# Altium footprint library clone_PCB_libary.PcbLib: 26 footprints (part 1 of 2)
Each footprint in its own frame and in the unit in brackets; x right, y up, seen from the top. Pads: shape width x height; smd on the part's side, far side on the other; paste and mask are expansions set on the pad; w line width, h text height; cw(c..) or ccw(c..) is an arc to the next point about the centre after c.
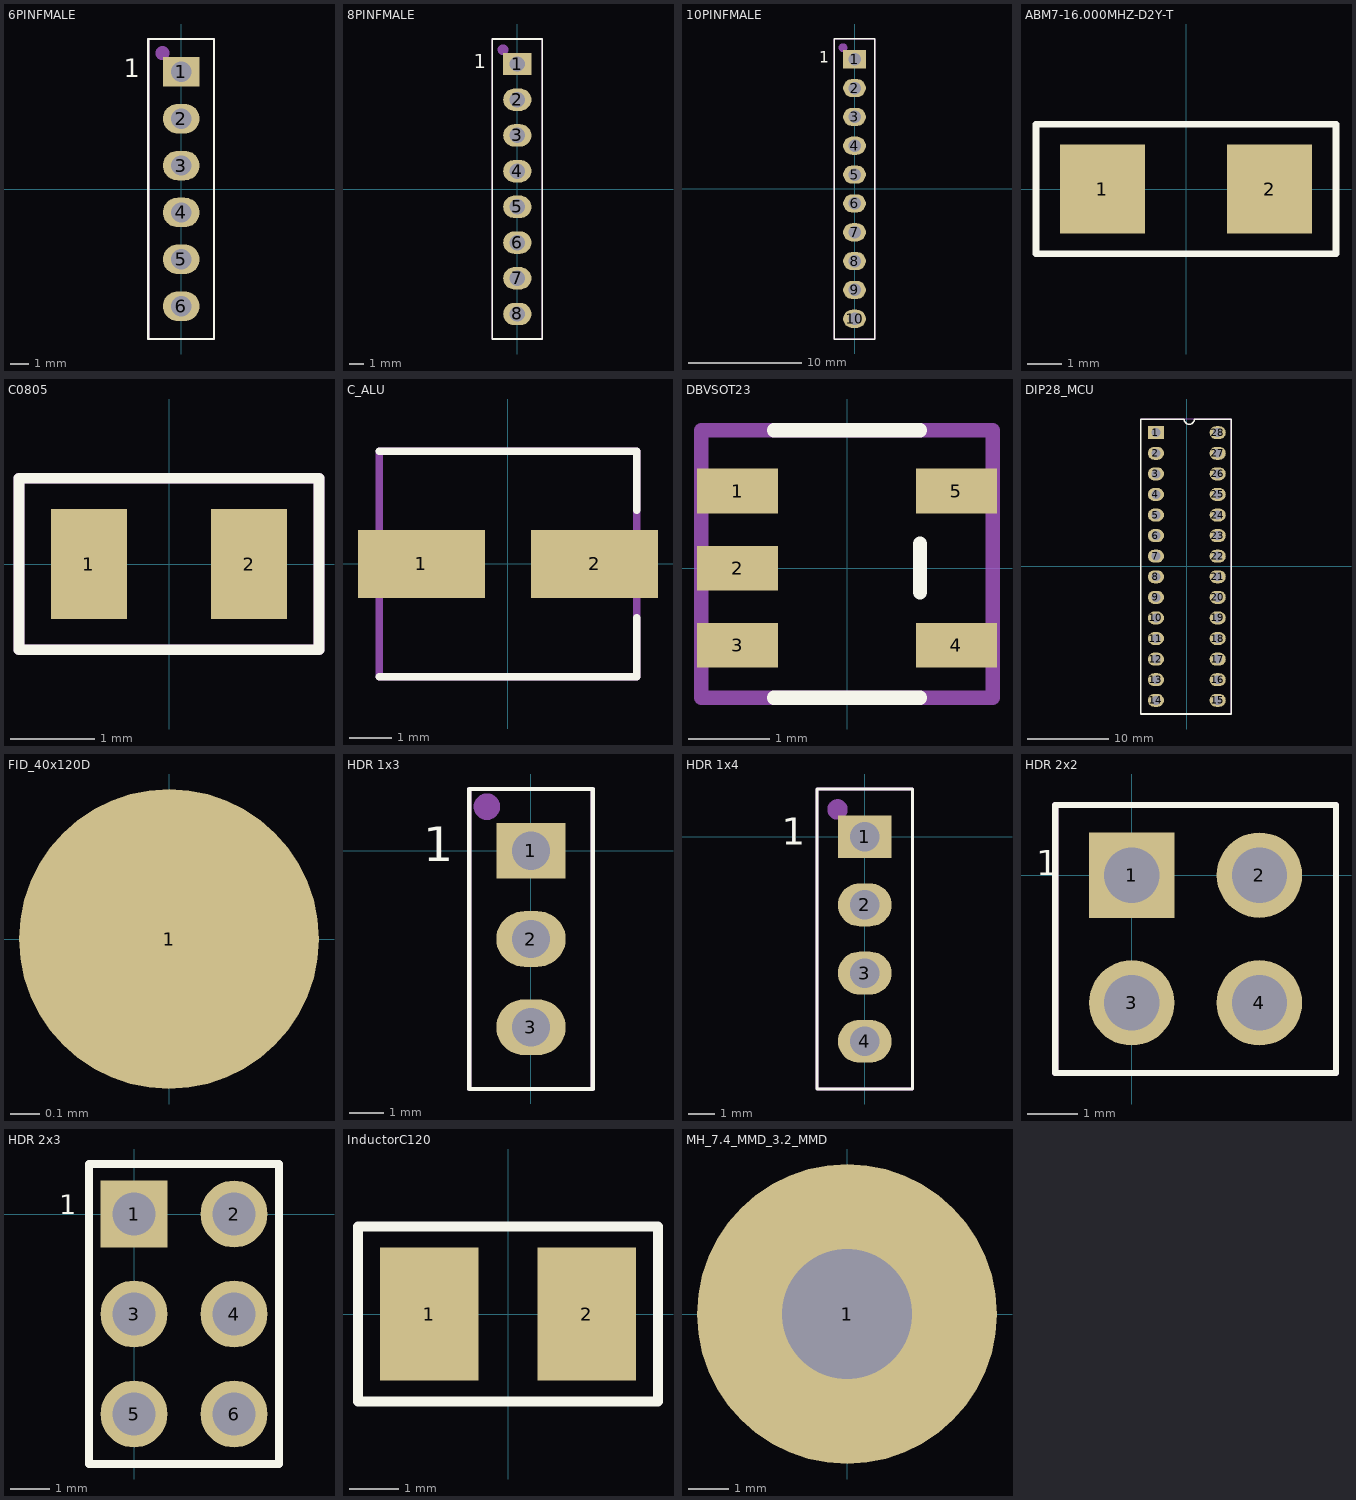
[diagram p0: the footprints below, top view; thin cyan lines are the x and y axes]

## 6PINFMALE [mm]
pads (6):
  rect 2x1.6 hole 1.1: 1(0,6.35)
  oval 2x1.6 hole 1.1: 2(0,3.81) 3(0,1.27) 4(0,-1.27) 5(0,-3.81) 6(0,-6.35)
Top Overlay:
  lines w0.127: -1.778,-8.128 1.778,-8.128 1.778,8.128 -1.778,8.128 -1.778,-8.128
  text "1" at -3.102,6.042 h1
Mechanical 2:
  circle w0.508: c-1.016,7.366 r0.127
  lines w0.127: -1.778,-8.128 1.778,-8.128 1.778,8.128 -1.778,8.128 -1.778,-8.128
  text ".Designator" at 0.483,-4.88 h1
3D body "m20-7820646.stp": height 8.8, standoff -2.7, extent -1.25,-7.82 1.25,7.82

## 8PINFMALE [mm]
pads (8):
  rect 2x1.6 hole 1.1: 1(0,8.89)
  oval 2x1.6 hole 1.1: 2(0,6.35) 3(0,3.81) 4(0,1.27) 5(0,-1.27) 6(0,-3.81) 7(0,-6.35) 8(0,-8.89)
Top Overlay:
  lines w0.127: -1.778,-10.668 -1.778,10.668 1.778,10.668 1.778,-10.668 -1.778,-10.668
  text "1" at -3.102,8.582 h1
Mechanical 2:
  circle w0.508: c-1.016,9.906 r0.127
  lines w0.127: -1.778,-10.668 -0.635,-10.668 1.143,-10.668 1.778,-10.668 1.778,10.668 -1.778,10.668 -1.778,-10.668
  text ".Designator" at 0.508,-7.874 h1.52
3D body "m20-7820842.stp": height 8.8, standoff -2.7, extent -1.25,-10.36 1.25,10.36

## 10PINFMALE [mm]
pads (10):
  rect 2x1.6 hole 1.1: 1(0,11.43)
  oval 2x1.6 hole 1.1: 2(0,8.89) 3(0,6.35) 4(0,3.81) 5(0,1.27) 6(0,-1.27) 7(0,-3.81) 8(0,-6.35) 9(0,-8.89) 10(0,-11.43)
Top Overlay:
  lines w0.127: -1.778,-13.208 1.778,-13.208 1.778,13.208 -1.778,13.208 -1.778,-13.208
  text "1" at -3.102,11.122 h1
Mechanical 2:
  circle w0.508: c-1.016,12.446 r0.127
  lines w0.127: -1.778,-13.208 -1.778,13.208 1.778,13.208 1.778,-13.208 -1.778,-13.208
  text ".Designator" at 0.762,-11.43 h1.52
3D body "M20-7821046_asm.stp": height 8.8, standoff -2.7, extent -1.25,-12.9 1.25,12.9

## 28_DIP_SOCKET [mm]
3D body "dil_socket.stp": height 4.07, standoff -3.3, extent -1.24,-34.26 8.86,1.24

## ABM7-16.000MHZ-D2Y-T [mm]
pads (2):
  rect 2.5x2.6 smd: 1(-2.45,0) 2(2.45,0)
Top Overlay:
  lines w0.2: -4.4,-1.9 4.4,-1.9 4.4,1.9 -4.4,1.9 -4.4,-1.9
Mechanical 2:
  lines w0.127: -4.4,-1.9 -4.4,1.9 4.4,1.9 4.4,-1.9 -4.4,-1.9
  text ".Designator" at -1.265,0.018 h0.25
3D body "XTAL_ABM7_ABR.step": height 1.4, standoff 0, extent -3.409,-2.291 3.409,2.291

## C0805 [mm]
pads (2):
  rect 0.9x1.3 smd: 1(-0.95,0) 2(0.95,0)
Top Overlay:
  lines w0.127: -1.778,-1.016 1.778,-1.016 1.778,1.016 -1.778,1.016 -1.778,-1.016
Mechanical 2:
  lines w0.127: -1.778,-1.016 -1.778,1.016 1.778,1.016 1.778,-1.016 -1.778,-1.016
  text ".Designator" at -1.22,-0.121 h0.25
3D body "CAP_2012_TDK.step": height 1.42, standoff -0.02, extent -1.067,-0.623 1.143,0.622

## C_ALU [mm]
pads (2):
  rect 3x1.6 smd: 1(-2.05,0) 2(2.05,0)
Top Overlay:
  lines w0.178: -3.048,-2.667 3.048,-2.667 3.048,-1.27 ; -3.048,2.667 3.048,2.667 3.048,1.778 3.048,1.524 3.048,1.27
Mechanical 2:
  circle w0.3: c-2.487,0.127 r0.1
  lines w0.178: -3.048,-2.667 -3.048,2.667 3.048,2.667 3.048,-2.667 -3.048,-2.667
  text ".Designator" at -1.297,0.013 h0.5
3D body "5 SIZE CODE C.stp": height 5.8, standoff 0, extent -3,-2.65 3,2.65

## DBVSOT23 [mm]
pads (5):
  rect 1x0.55 smd: 1(-1.35,0.95) 2(-1.35,0) 3(-1.35,-0.95) 4(1.35,-0.95) 5(1.35,0.95)
Top Overlay:
  lines w0.178: -0.9,-1.6 0.9,-1.6 ; -0.9,1.7 0.9,1.7 ; 0.9,-0.3 0.9,0.3
Mechanical 2:
  circle w0.254: c-1.372,0.94 r0.1
  lines w0.178: -1.8,-1.6 1.8,-1.6 1.8,1.7 -1.8,1.7 -1.8,-1.6
  text ".Designator" at -0.89,-0.112 h0.2
3D body "SN74AHC1G09DBVR.step": height 1.45, standoff 0, extent -1.4,-1.45 1.4,1.45

## DIP28_MCU [mm]
pads (28):
  rect 2x1.6 hole 1.1: 1(-3.81,16.51)
  oval 2x1.6 hole 1.1: 2(-3.81,13.97) 3(-3.81,11.43) 4(-3.81,8.89) 5(-3.81,6.35) 6(-3.81,3.81) 7(-3.81,1.27) 8(-3.81,-1.27) 9(-3.81,-3.81) 10(-3.81,-6.35) 11(-3.81,-8.89) 12(-3.81,-11.43) 13(-3.81,-13.97) 14(-3.81,-16.51) 15(3.81,-16.51) 16(3.81,-13.97) 17(3.81,-11.43) 18(3.81,-8.89) 19(3.81,-6.35) 20(3.81,-3.81) 21(3.81,-1.27) 22(3.81,1.27) 23(3.81,3.81) 24(3.81,6.35) 25(3.81,8.89) 26(3.81,11.43) 27(3.81,13.97) 28(3.81,16.51)
Top Overlay:
  lines w0.2: -5.7,-18.2 5.487,-18.2 5.487,18.144 5.487,18.18 0.935,18.18 cw(c0.3,18.18) -0.335,18.18 -5.7,18.18 -5.7,-18.2
Mechanical 2:
  circle w0.762: c-3.81,16.51 r0.127
  lines w0.076: -5.7,-18.1 -5.6,-18.2 ; 5.4,-18.2 5.5,-18.1
  lines w0.152: -5.7,-18.1 -5.7,18.2 5.5,18.2 5.5,-18.1 ; -5.6,-18.2 5.4,-18.2
  text ".Designator" at 0.508,-0.381 h1.52
3D body "DIP-28 N.step": height 7, standoff -0.35, extent -4.568,-17.6 4.568,17.6

## FID_40x120D [mil]
pads (1):
  round 40 smd paste-1574.8 mask+40: 1(0,0)

## HDR 1x3 [mm]
pads (3):
  rect 2x1.6 hole 1.1: 1(0,0)
  oval 2x1.6 hole 1.1: 2(0,-2.54) 3(0,-5.08)
Top Overlay:
  lines w0.127: -1.778,-6.858 -1.778,1.778 1.778,1.778 1.778,-6.858 -1.778,-6.858
  text "1" at -3.102,-0.308 h1
Mechanical 2:
  circle w0.508: c-1.27,1.27 r0.127
  lines w0.127: -1.778,-6.858 -1.778,1.778 1.778,1.778 1.778,-6.858 -1.778,-6.858
  text ".Designator" at 0.483,-5.896 h1
3D body "68000-103HLF.step": height 8.39, standoff -2.41, extent -1.205,-6.35 1.205,1.27

## HDR 1x4 [mm]
pads (4):
  rect 2x1.6 hole 1.1: 1(0,0)
  oval 2x1.6 hole 1.1: 2(0,-2.54) 3(0,-5.08) 4(0,-7.62)
Top Overlay:
  lines w0.127: -1.778,-9.398 -1.778,1.778 1.778,1.778 1.778,-9.398 -1.778,-9.398
  text "1" at -3.102,-0.308 h1
Mechanical 2:
  circle w0.508: c-1.016,1.016 r0.127
  lines w0.127: -1.778,-9.398 -1.778,1.778 1.778,1.778 1.778,-9.398 -1.778,-9.398
  text ".Designator" at 0.229,-7.928 h1
3D body "68001-204HLF.step": height 8.38, standoff -3.05, extent -1.205,-8.89 1.205,1.27

## HDR 2x2 [mm]
pads (4):
  rect 1.7x1.7 hole 1.1: 1(0,0)
  round 1.7 hole 1.1: 2(2.54,0) 3(0,-2.54) 4(2.54,-2.54)
Top Overlay:
  lines w0.127: -1.524,-3.937 -1.524,1.397 4.064,1.397 4.064,-3.937 -1.524,-3.937
  text "1" at -1.905,0 h0.5
Mechanical 2:
  circle w0.508: c0,0 r0.105
  lines w0.127: -1.524,-3.937 -1.524,1.397 4.064,1.397 4.064,-3.937 -1.524,-3.937
  text ".Designator" at 1.408,-2.718 h0.5
3D body "68602-204HLF.stp": height 9.08, standoff -3.86, extent -1.147,-3.81 3.683,1.27

## HDR 2x3 [mm]
pads (6):
  rect 1.7x1.7 hole 1.1: 1(0,0)
  round 1.7 hole 1.1: 2(2.54,0) 3(0,-2.54) 4(2.54,-2.54) 5(0,-5.08) 6(2.54,-5.08)
Top Overlay:
  lines w0.2: 0.635,1.27 3.683,1.27 3.683,-6.35 -1.143,-6.35 -1.143,1.27 1.905,1.27
  text "1" at -1.905,0 h0.5
Mechanical 2:
  circle w0.508: c0,0 r0.105
  lines w0.127: -1.143,-6.35 3.683,-6.35 3.683,1.27 -1.143,1.27 -1.143,-6.35
  text ".Designator" at 1.408,-4.623 h0.5
3D body "67997-106HLF.step": height 8.46, standoff -2.97, extent -1.145,-6.35 3.685,1.27

## InductorC120 [mm]
pads (2):
  rect 2x2.7 smd: 1(-1.6,0) 2(1.6,0)
Top Overlay:
  lines w0.2: -3.048,-1.778 3.048,-1.778 3.048,1.778 -3.048,1.778 -3.048,-1.778
Mechanical 2:
  lines w0.178: -3.048,-1.778 -3.048,1.778 3.048,1.778 3.048,-1.778 -3.048,-1.778
  text ".Designator" at -2.44,0.013 h0.5
3D body "IND_L1210_KEM.step": height 2.69, standoff 0, extent -1.702,-1.346 1.702,1.346

## MH_7.4_MMD_3.2_MMD [mm]
pads (1):
  round 7.4 hole 3.2: 1(0,0)